# EAGLE library part ST-LSM9DS1TR (library FaBo-Mems)
STMicroelectronics LSM9DS1TR(9aixs)
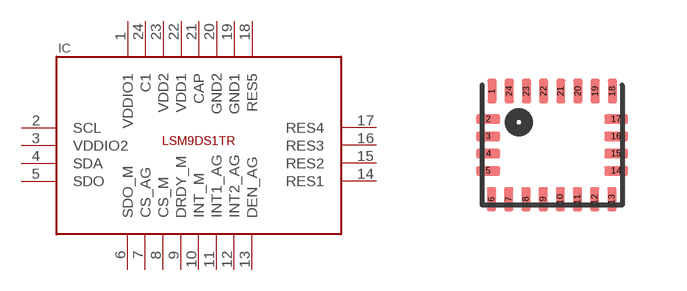
[diagram p9: symbol with the pads of ST-LSM9DS1TR; footprint ST-LSM9DS1TR]

Designator prefix IC

## ST-LSM9DS1TR  [ST-LSM9DS1TR]
1  VDDIO1
2  SCL
3  VDDIO2
4  SDA
5  SDO
6  SDO_M
7  CS_AG
8  CS_M
9  DRDY_M
10  INT_M
11  INT1_AG
12  INT2_AG
13  DEN_AG
14  RES1
15  RES2
16  RES3
17  RES4
18  RES5
19  GND1
20  GND2
21  CAP
22  VDD1
23  VDD2
24  C1

## Footprint ST-LSM9DS1TR (pad centres in mm)
smd 0.23 x 0.6: 1 -1.505,1.35; 6 -1.517,-1.35; 7 -1.087,-1.35; 8 -0.657,-1.35; 9 -0.227,-1.35; 10 0.203,-1.35; 11 0.633,-1.35; 12 1.063,-1.35; 13 1.493,-1.35; 18 1.505,1.35; 19 1.075,1.35; 20 0.645,1.35; 21 0.215,1.35; 22 -0.215,1.35; 23 -0.645,1.35; 24 -1.075,1.35
smd 0.6 x 0.23: 2 -1.6,0.648; 3 -1.6,0.218; 4 -1.6,-0.212; 5 -1.6,-0.642; 14 1.6,-0.642; 15 1.6,-0.212; 16 1.6,0.218; 17 1.6,0.648